# Altium schematic symbol library IR IGBT.SchLib: 1 symbol
Pins are listed as number, name and electrical type; pins without a type are passive.

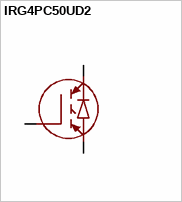
[diagram p0: symbol IRG4PC50UD2]

## IRG4PC50UD2
designator VT?
N-chenel
footprint TO247-1
footprint TO247-2
footprint TO247-3
pins: 1, 2, 3